# EAGLE library part ISL6292-2CR4Z (library Intersil_By_element14_Batch_1)
Battery Charger
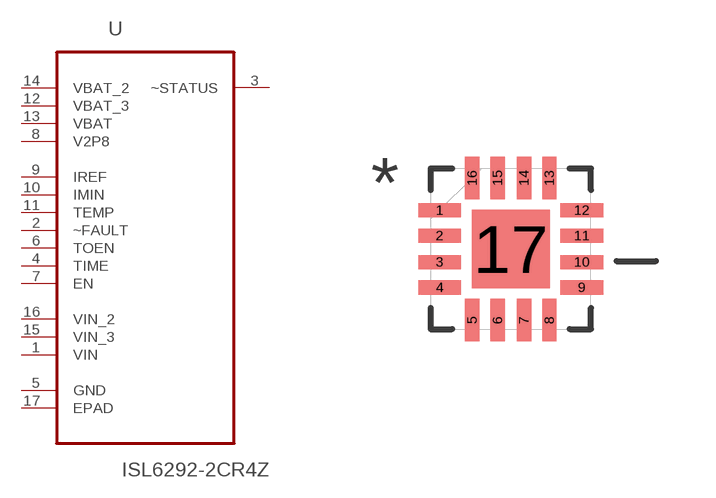
[diagram p221: symbol with the pads of QFN65P400X400X100-17N; footprint QFN65P400X400X100-17N]

Designator prefix U

## ISL6292-2CR4Z (MPN: ISL6292-2CR4Z; OC_FARNELL: 1562051; OC_NEWARK: 83H7001; PACKAGE: QFN-16; SUPPLIER: INTERSIL)  [QFN65P400X400X100-17N]
1  VIN  in
2  ~FAULT  in
3  ~STATUS  out
4  TIME  in
5  GND  pas
6  TOEN  in
7  EN  in
8  V2P8  pwr
9  IREF  in
10  IMIN  in
11  TEMP  in
12  VBAT_3  in
13  VBAT  in
14  VBAT_2  in
15  VIN_3  in
16  VIN_2  in
17  EPAD  pas

## Footprint QFN65P400X400X100-17N (pad centres in mm)
smd 1.067 x 0.356: 1 -1.778,0.965; 2 -1.778,0.33; 3 -1.778,-0.33; 4 -1.778,-0.965; 9 1.778,-0.965; 10 1.778,-0.33; 11 1.778,0.33; 12 1.778,0.965
smd 0.356 x 1.067: 5 -0.965,-1.778; 6 -0.33,-1.778; 7 0.33,-1.778; 8 0.965,-1.778; 13 0.965,1.778; 14 0.33,1.778; 15 -0.33,1.778; 16 -0.965,1.778
smd 1.956 x 1.956: 17 0,0